# Altium schematic symbol library RPS_ARMOR_PCB_2022_V1.1.SchLib: 18 symbols
Pins are listed as number, name and electrical type; pins without a type are passive.

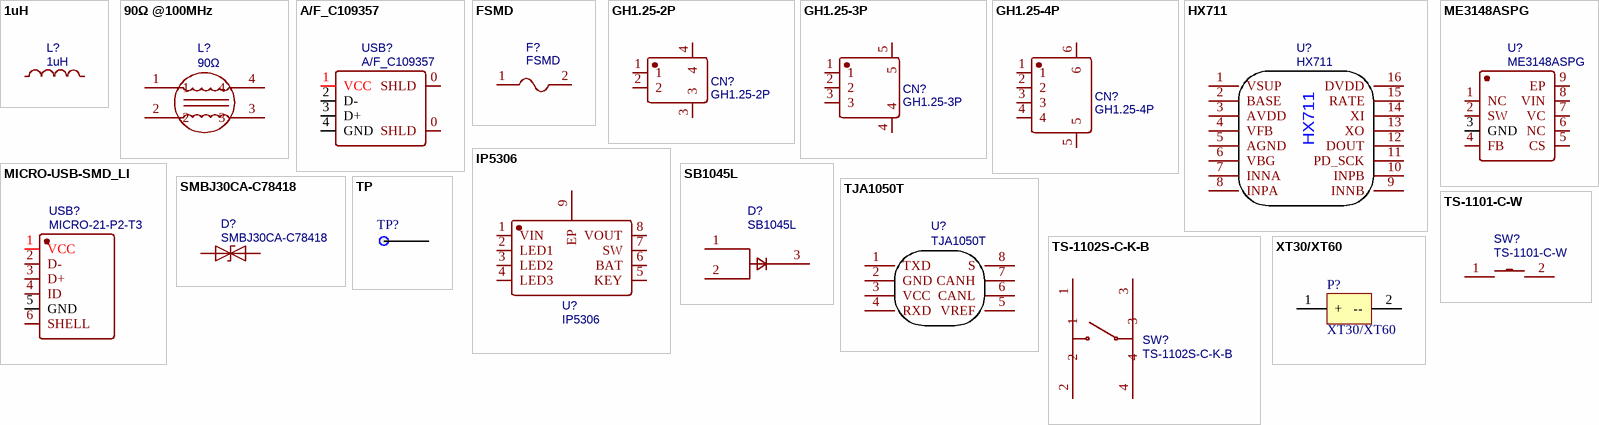
[diagram p0: symbols 1uH to XT30/XT60]

## 1uH
designator L?
BOM_Manufacturer: TDK; BOM_Manufacturer Part: SPM6530T-1R0M120; nameAlias: Inductance; BOM_Supplier: LCSC; BOM_Supplier Part: C87572; BOM_JLCPCB Part Class: Extended Part; spicePre: L; spiceSymbolName: SPM6530T-1R0M120
footprint IND-SMD_L7.1-W6.6
pins: 1, 2

## 90Ω @100MHz
designator L?, comment 90Ω
BOM_Manufacturer: TDK; BOM_Manufacturer Part: ACM2012H-900-2P-T00; nameAlias: Value; BOM_Supplier: LCSC; BOM_Supplier Part: C76575; BOM_JLCPCB Part Class: Extended Part; spicePre: L; spiceSymbolName: ACM2012H-900-2P-T00
footprint FILTER-SMD_4P-L2.0-W1.2-BL
pins: 1, 2, 3, 4

## A/F_C109357
designator USB?
BOM_Manufacturer: LCSC; Contributor: 立创EDA官方封装库; BOM_Supplier: LCSC; BOM_Supplier Part: C109357; BOM_Manufacturer Part: -; BOM_JLCPCB Part Class: Extended Part; spicePre: U; spiceSymbolName: A/F_C109357
footprint USB-A-TH_USB-A-F-1
pins: 0 SHLD, 0 SHLD, 1 VCC, 2 D-, 3 D+, 4 GND

## FSMD
designator F?
自恢复保险丝; BOM_Manufacturer: BHFUSE; BOM_Manufacturer Part: BSMD0603L-110; Contributor: LCSC; BOM_Supplier: LCSC; BOM_Supplier Part: C914093; BOM_JLCPCB Part Class: Extended Part; spicePre: F; spiceSymbolName: BSMD0603L-110
footprint F1206
pins: 1, 2

## GH1.25-2P
designator CN?
GH1.25端子; BOM_Manufacturer: Changjiang Connectors; BOM_Manufacturer Part: A1257WR-S-2P; Contributor: LCSC; BOM_Supplier: LCSC; BOM_Supplier Part: C225125; spicePre: C; spiceSymbolName: A1257WR-S-2P
footprint GH1.25-LS-2P
footprint GH1.25-WS-2P
pins: 1, 2, 3, 4

## GH1.25-3P
designator CN?
GH1.25端子; BOM_Manufacturer: Changjiang Connectors; BOM_Manufacturer Part: A1257WV-S-3P; Contributor: LCSC; BOM_Supplier: LCSC; BOM_Supplier Part: C225119; spicePre: C; spiceSymbolName: A1257WV-S-3P
footprint GH1.25-LS-3P (A1257WR-S-3P)
footprint GH1.25-WS-3P (A1257WR-S-3P)
pins: 1, 2, 3, 4, 5

## GH1.25-4P
designator CN?
GH1.25端子; BOM_Manufacturer: Changjiang Connectors; BOM_Manufacturer Part: A1257WV-S-4P; Contributor: LCSC; BOM_Supplier: LCSC; BOM_Supplier Part: C225120; spicePre: C; spiceSymbolName: A1257WV-S-4P
footprint GH1.25-LS-4P (A1257WR-S-4P)
footprint GH1.25-WS-4P (A1257WR-S-4P)
pins: 1, 2, 3, 4, 5, 6

## HX711
designator U?
BOM_Manufacturer: AVIA; BOM_Supplier: LCSC; BOM_Manufacturer Part: HX711; BOM_Supplier Part: C43656; BOM_JLCPCB Part Class: Extended Part; spicePre: U; spiceSymbolName: HX711
footprint SOP-16_L10.0-W3.9-P1.27-LS6.0-BL
pins: 1 VSUP, 2 BASE, 3 AVDD, 4 VFB, 5 AGND, 6 VBG, 7 INNA, 8 INPA, 9 INNB, 10 INPB, 11 PD_SCK, 12 DOUT, 13 XO, 14 XI, 15 RATE, 16 DVDD

## IP5306
designator U?
BOM_Manufacturer: INJOINIC; Contributor: LCSC; BOM_Supplier: LCSC; BOM_Supplier Part: C181692; BOM_Manufacturer Part: IP5306; BOM_JLCPCB Part Class: Extended Part; spicePre: U; spiceSymbolName: IP5306
footprint ESOP-8_L4.9-W3.9-P1.27-LS6.0-BL-EP
pins: 1 VIN, 2 LED1, 3 LED2, 4 LED3, 5 KEY, 6 BAT, 7 SW, 8 VOUT, 9 EP

## ME3148ASPG
designator U?
BOM_Manufacturer: MICRONE(南京微盟); Contributor: LCSC; BOM_Supplier: LCSC; BOM_Supplier Part: C2683415; BOM_Manufacturer Part: ME3148ASPG; BOM_JLCPCB Part Class: Extended Part; spicePre: U; spiceSymbolName: ME3148ASPG
footprint ESOP-8_L4.9-W3.9-P1.27-LS6.0-BL-EP
pins: 1 NC, 2 SW, 3 GND, 4 FB, 5 CS, 6 NC, 7 VC, 8 VIN, 9 EP

## MICRO-USB-SMD_LI
designator USB?, comment MICRO-21-P2-T3
立式MICRO-USB; BOM_Manufacturer: Yuandi(台湾元迪); Contributor: LCSC; BOM_Supplier: LCSC; BOM_Supplier Part: C2834965; BOM_Manufacturer Part: MICRO-21-P2-T3; BOM_JLCPCB Part Class: Extended Part; spicePre: U; spiceSymbolName: MICRO-21-P2-T3
footprint MICRO-USB-SMD_LI
pins: 1 VCC, 2 D-, 3 D+, 4 ID, 5 GND, 6 SHELL

## SB1045L
designator D?
肖特基二极管; BOM_Manufacturer: (MDD) Jiangsu Yutai Elec; Contributor: LCSC; BOM_Supplier: LCSC; BOM_Supplier Part: C113945; BOM_Manufacturer Part: SB1045L; BOM_JLCPCB Part Class: Extended Part; spicePre: D; spiceSymbolName: SB1045L
footprint TO-277A_L4.7-W6.1-LS6.6-TR
pins: 1, 2, 3

## SMBJ30CA-C78418
designator D?
TVS; BOM_Manufacturer: Brightking; BOM_Supplier: LCSC; BOM_Manufacturer Part: SMBJ30CA; BOM_Supplier Part: C78418; BOM_JLCPCB Part Class: Extended Part; spicePre: D; spiceSymbolName: SMBJ30CA-C78418
footprint SMB_L4.6-W3.6-LS5.3-BI
pins: 1, 2

## TJA1050T
designator U?
BOM_Manufacturer: NXP; BOM_Manufacturer Part: TJA1050T/CM,118; BOM_Supplier: LCSC; BOM_Supplier Part: C6952; BOM_JLCPCB Part Class: Basic Part; spicePre: U; spiceSymbolName: TJA1050T/CM,118
footprint SOIC-8_L5.0-W4.0-P1.27-LS6.0-BL
pins: 1 TXD, 2 GND, 3 VCC, 4 RXD, 5 VREF, 6 CANL, 7 CANH, 8 S

## TP
designator TP?
测试点
footprint TP
pins: 1

## TS-1101-C-W
designator SW?
按键; BOM_Manufacturer: XKB Connectivity(中国星坤); Contributor: LCSC; BOM_Supplier: LCSC; BOM_Supplier Part: C318938; BOM_Manufacturer Part: TS-1101-C-W; BOM_JLCPCB Part Class: Extended Part; spicePre: S; spiceSymbolName: TS-1101-C-W
footprint SW-SMD_L6.0-W3.3-LS8.0
pins: 1, 2

## TS-1102S-C-K-B
designator SW?
按键; BOM_Manufacturer: XKB Enterprise; Contributor: LCSC; BOM_Supplier: LCSC; BOM_Supplier Part: C381049; BOM_Manufacturer Part: TS-1102S-C-K-B; BOM_JLCPCB Part Class: Extended Part; spicePre: S; spiceSymbolName: TS-1102S-C-K-B
footprint KEY-SMD_4P-L6.0-W6.0-P4.50-LS8.6
pins: 1, 2, 3, 4

## XT30/XT60
designator P?
XT端子
footprint XT30PW-M
footprint XT30UPB-F
footprint XT30PW-F
footprint TX60-LI-P (长：16mm，宽：8.2mm，高：16mm)
footprint TX60-LI-S (长：16mm，宽：8.2mm，高：16mm)
footprint TX60PW-F20 (长：18.8mm， 宽：16mm，高：8.6mm)
footprint TX60PW-M20 (长：18.8mm， 宽：16mm，高：8.6mm)
footprint XT30UPB-M
pins: 1 +, 2 --